# EAGLE library part MAX11608 (library Stofer)
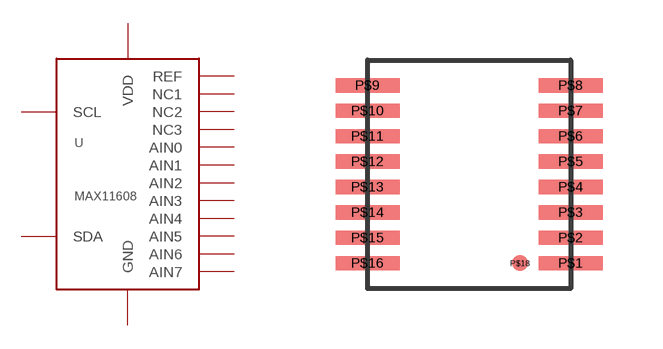
[diagram p17: symbol with the pads of QSOP_16; footprint QSOP_16]

Designator prefix -

## MAX11608  [QSOP_16]
P$1  REF  in
P$2  NC1  in
P$3  NC2  in
P$4  NC3  in
P$5  AIN0  in
P$6  AIN1  in
P$7  AIN2  in
P$8  AIN3  in
P$9  AIN4  in
P$10  AIN5  in
P$11  AIN6  in
P$12  AIN7  in
P$13  SCL
P$14  SDA
P$15  GND  pwr
P$16  VDD  pwr

## Footprint QSOP_16 (pad centres in mm)
smd 1.6 x 0.356: P$1 3.81,-2.54; P$2 3.81,-1.905; P$3 3.81,-1.27; P$4 3.81,-0.635; P$5 3.81,0; P$6 3.81,0.635; P$7 3.81,1.27; P$8 3.81,1.905; P$9 -1.27,1.905; P$10 -1.27,1.27; P$11 -1.27,0.635; P$12 -1.27,0; P$13 -1.27,-0.635; P$14 -1.27,-1.27; P$15 -1.27,-1.905; P$16 -1.27,-2.54
smd 0.406 x 0.406: P$18 2.54,-2.54